# EAGLE library part TPS65400RGZT (library micromousev2Parts)
Texas Instruments TPS65400RGZT, Power Management IC Source: Datasheet <http://www.ti.com/lit/ds/symlink/tps65400.pdf>
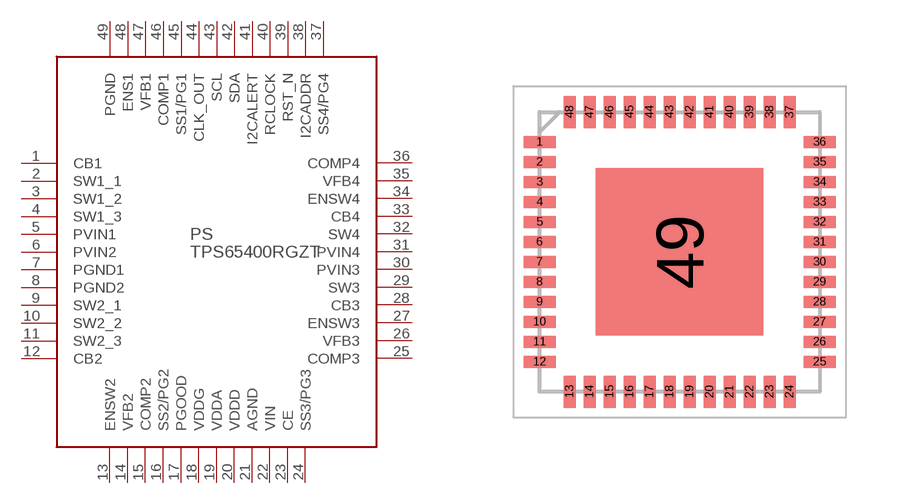
[diagram p8: symbol with the pads of QFN50P700X700X100-49N; footprint QFN50P700X700X100-49N]

Designator prefix PS

## TPS65400RGZT (ARROW_PART_NUMBER: TPS65400RGZT; ARROW_PRICE/STOCK: https://www.arrow.com/en/products/tps65400rgzt/texas-instruments; DESCRIPTION: Texas Instruments TPS65400RGZT, Power Management IC; HEIGHT: 1mm; MANUFACTURER_NAME: Texas Instruments; MANUFACTURER_PART_NUMBER: TPS65400RGZT; RS_PART_NUMBER: 1629904; RS_PRICE/STOCK: http://uk.rs-online.com/web/p/products/1629904)  [QFN50P700X700X100-49N]
1  CB1  out
2  SW1_1  out
3  SW1_2  out
4  SW1_3  out
5  PVIN1  pwr
6  PVIN2  pwr
7  PGND1  pwr
8  PGND2  pwr
9  SW2_1  out
10  SW2_2  out
11  SW2_3  out
12  CB2  out
13  ENSW2  in
14  VFB2  in
15  COMP2  in
16  SS2/PG2  in
17  PGOOD  out
18  VDDG  in
19  VDDA  out
20  VDDD  out
21  AGND  pwr
22  VIN  pwr
23  CE  in
24  SS3/PG3  in
25  COMP3  in
26  VFB3  in
27  ENSW3  in
28  CB3  out
29  SW3  out
30  PVIN3  pwr
31  PVIN4  pwr
32  SW4  out
33  CB4  out
34  ENSW4  in
35  VFB4  in
36  COMP4  in
37  SS4/PG4  in
38  I2CADDR  in
39  RST_N  in
40  RCLOCK  in
41  I2CALERT  out
42  SDA
43  SCL  in
44  CLK_OUT  out
45  SS1/PG1  in
46  COMP1  in
47  VFB1  in
48  ENS1  in
49  PGND  pwr

## Footprint QFN50P700X700X100-49N (pad centres in mm)
RGZ (S-PVQFN-N48)_4.08TP
smd 0.8 x 0.3: 1 -3.5,2.75; 2 -3.5,2.25; 3 -3.5,1.75; 4 -3.5,1.25; 5 -3.5,0.75; 6 -3.5,0.25; 7 -3.5,-0.25; 8 -3.5,-0.75; 9 -3.5,-1.25; 10 -3.5,-1.75; 11 -3.5,-2.25; 12 -3.5,-2.75; 25 3.5,-2.75; 26 3.5,-2.25; 27 3.5,-1.75; 28 3.5,-1.25; 29 3.5,-0.75; 30 3.5,-0.25; 31 3.5,0.25; 32 3.5,0.75; 33 3.5,1.25; 34 3.5,1.75; 35 3.5,2.25; 36 3.5,2.75
smd 0.3 x 0.8: 13 -2.75,-3.5; 14 -2.25,-3.5; 15 -1.75,-3.5; 16 -1.25,-3.5; 17 -0.75,-3.5; 18 -0.25,-3.5; 19 0.25,-3.5; 20 0.75,-3.5; 21 1.25,-3.5; 22 1.75,-3.5; 23 2.25,-3.5; 24 2.75,-3.5; 37 2.75,3.5; 38 2.25,3.5; 39 1.75,3.5; 40 1.25,3.5; 41 0.75,3.5; 42 0.25,3.5; 43 -0.25,3.5; 44 -0.75,3.5; 45 -1.25,3.5; 46 -1.75,3.5; 47 -2.25,3.5; 48 -2.75,3.5
smd 4.18 x 4.18: 49 0,0